# Altium integrated library Maxim Logic Switch.IntLib: 311 symbols (part 4 of 6)
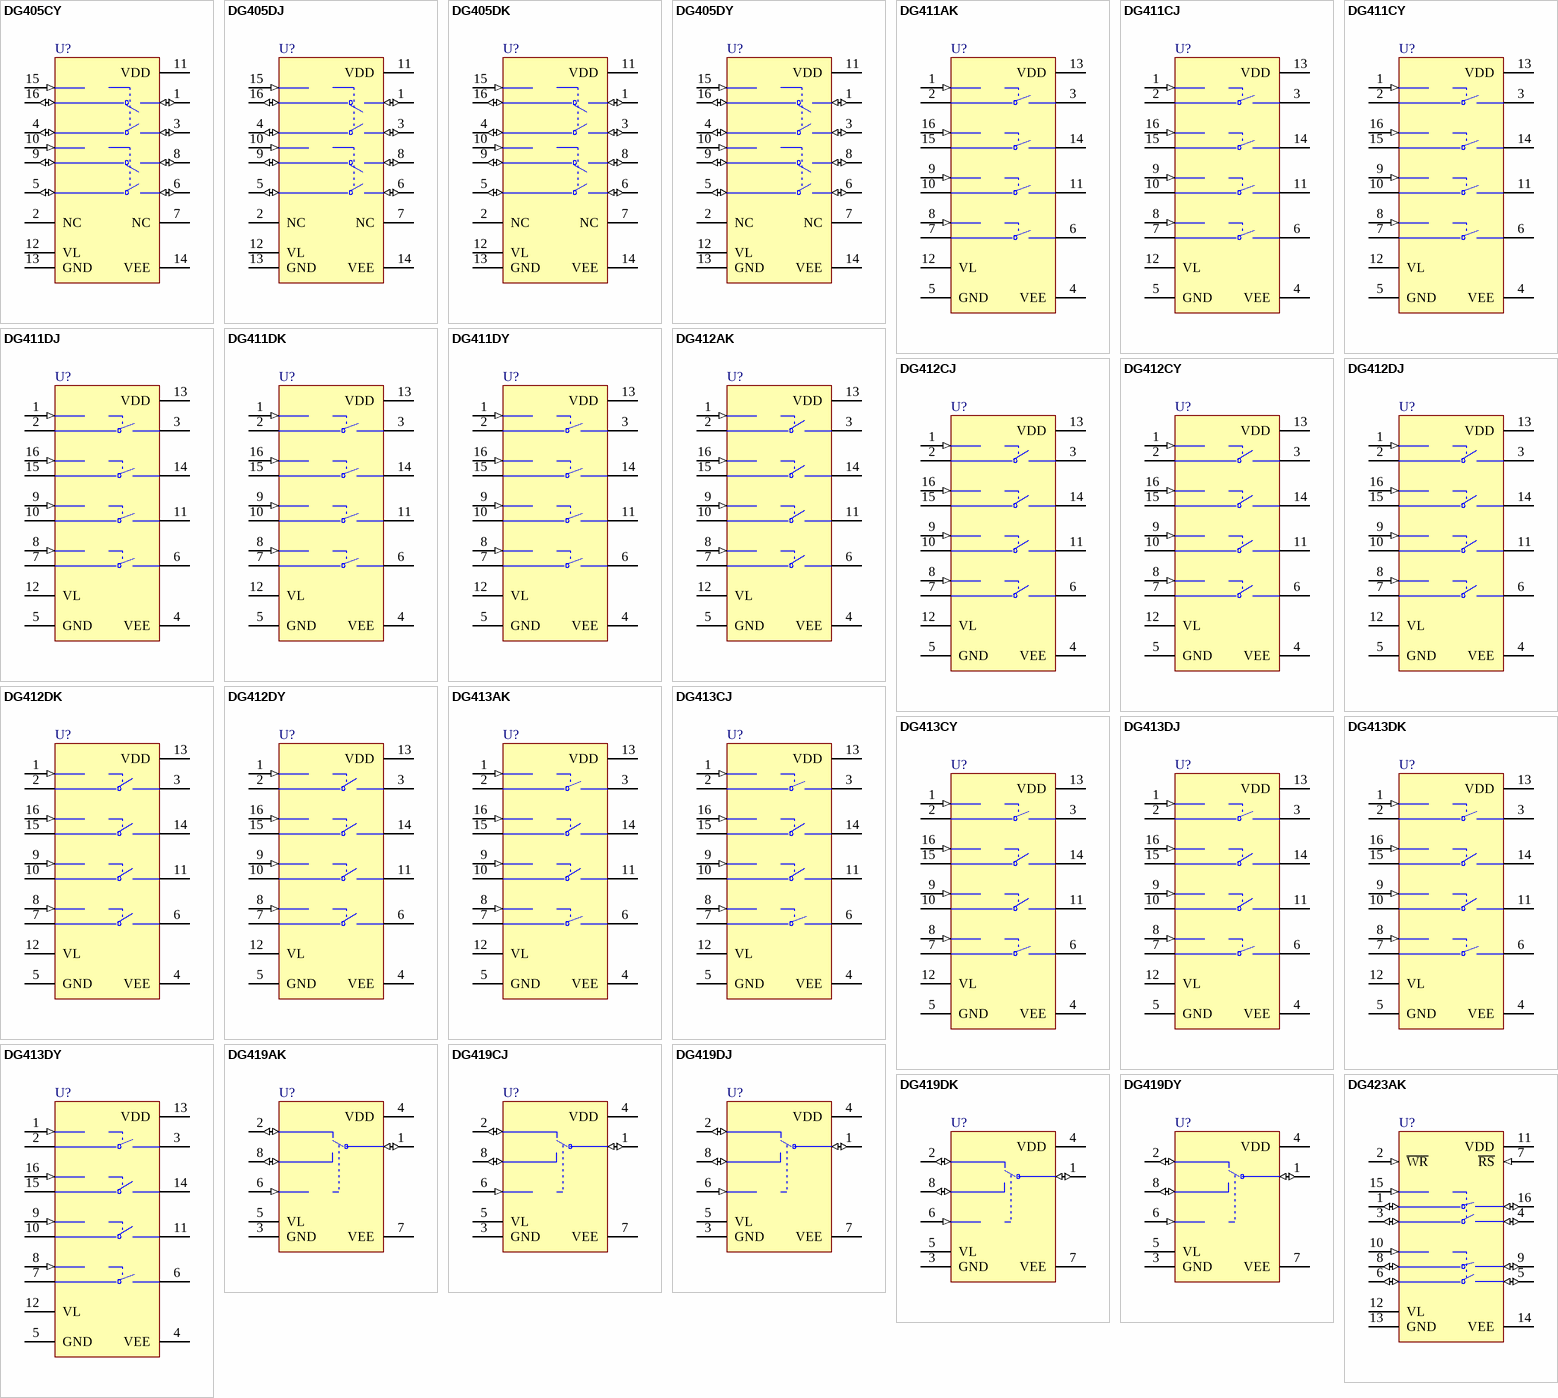
[diagram p13: symbols DG405CY to DG423AK]

## DG405DJ
designator U?
Improved, Dual High Speed Analog Switch; Published: 16-Jan-2001; LatestRevisionDate: 29-May-2009; LatestRevisionNote: Component Body Added.; PackageVersion: 1997; PackageReference: PE16A; Publisher: Altium Limited; PackageDescription: DIP, 16-Pin, Row Spacing 7.62 mm, Pitch 2.54 mm; Code_JEDEC: MS-001-BB; ComponentLink1Description: Manufacturer Link; ComponentLink1URL: http://www.maxim-ic.com/; ComponentLink2Description: Datasheet; ComponentLink2URL: http://pdfserv.maxim-ic.com/en/ds/DG401-DG405.pdf
footprint PE16A (DIP, 16-Leads, Row Spacing 7.62mm, Pitch 2.54mm, Body 19.18x6.99mm)
3D model PE16 (DIP, 16-Pin, Row Spacing 7.62 mm, Pitch 2.54 mm)
pins: 1 D1 (io), 2 NC, 3 D3 (io), 4 S3 (io), 5 S4 (io), 6 D4 (io), 7 NC, 8 D2 (io), 9 S2 (io), 10 IN2 (in), 11 VDD (power), 12 VL (power), 13 GND (power), 14 VEE (power), 15 IN1 (in), 16 S1 (io)

## DG405DK
designator U?
Improved, Dual High Speed Analog Switch; Published: 16-Jan-2001; LatestRevisionDate: 29-May-2009; LatestRevisionNote: Component Body Added.; PackageVersion: 1996; PackageReference: JE16; Publisher: Altium Limited; PackageDescription: DIP, 16-Pin, Row Spacing 7.62 mm, Pitch 2.54 mm; ComponentLink1Description: Manufacturer Link; ComponentLink1URL: http://www.maxim-ic.com/; ComponentLink2Description: Datasheet; ComponentLink2URL: http://pdfserv.maxim-ic.com/en/ds/DG401-DG405.pdf
footprint JE16 (DIP, 16-Leads, Row Spacing 7.62mm, Pitch 2.54mm, Body 20.37x6.73mm)
3D model JE16 (DIP, 16-Pin, Row Spacing 7.62 mm, Pitch 2.54 mm)
pins: 1 D1 (io), 2 NC, 3 D3 (io), 4 S3 (io), 5 S4 (io), 6 D4 (io), 7 NC, 8 D2 (io), 9 S2 (io), 10 IN2 (in), 11 VDD (power), 12 VL (power), 13 GND (power), 14 VEE (power), 15 IN1 (in), 16 S1 (io)

## DG405DY
designator U?
Improved, Dual High Speed Analog Switch; Published: 16-Jan-2001; LatestRevisionDate: 13-Apr-2006; LatestRevisionNote: IPC-7351 Footprint Added.; PackageReference: NSO16; Publisher: Altium Limited; PackageDescription: 16-Pin Small Outline Integrated Circuit 1.27 mm Pitch; Code_JEDEC: MS-012-AC; Code_IPC: SOIC127P600-16; ComponentLink1Description: Manufacturer Link; ComponentLink1URL: http://www.maxim-ic.com/; ComponentLink2Description: Datasheet; ComponentLink2URL: http://pdfserv.maxim-ic.com/en/ds/DG401-DG405.pdf
footprint NSO16_N (SOIC, 16-Leads, Body 9.9x3.9mm, Pitch 1.27mm, IPC Medium Density)
footprint NSO16_L (SOIC, 16-Leads, Body 9.9x3.9mm, Pitch 1.27mm, IPC High Density)
footprint NSO16_M (SOIC, 16-Leads, Body 9.9x3.9mm, Pitch 1.27mm, IPC Low Density)
3D model NSO16 (16-Pin Small Outline Integrated Circuit 1.27 mm Pitch)
pins: 1 D1 (io), 2 NC, 3 D3 (io), 4 S3 (io), 5 S4 (io), 6 D4 (io), 7 NC, 8 D2 (io), 9 S2 (io), 10 IN2 (in), 11 VDD (power), 12 VL (power), 13 GND (power), 14 VEE (power), 15 IN1 (in), 16 S1 (io)

## DG411AK
designator U?
Improved, Quad, SPST Analog Switches; Published: 16-Jan-2001; LatestRevisionDate: 29-May-2009; LatestRevisionNote: Component Body Added.; DatasheetVersion: Aug-1995; PackageVersion: 1996; PackageReference: JE16; Publisher: Altium Limited; PackageDescription: DIP, 16-Pin, Row Spacing 7.62 mm, Pitch 2.54 mm; ComponentLink1Description: Manufacturer Link; ComponentLink1URL: http://www.maxim-ic.com/; ComponentLink2Description: Datasheet; ComponentLink2URL: http://pdfserv.maxim-ic.com/en/ds/DG411-DG413.pdf
footprint JE16 (DIP, 16-Leads, Row Spacing 7.62mm, Pitch 2.54mm, Body 20.37x6.73mm)
3D model JE16 (DIP, 16-Pin, Row Spacing 7.62 mm, Pitch 2.54 mm)
pins: 1 IN1 (in), 2 D1, 3 S1, 4 VEE (power), 5 GND (power), 6 S4, 7 D4, 8 IN 4 (in), 9 IN3 (in), 10 D3, 11 S3, 12 VL (power), 13 VDD (power), 14 S2, 15 D2, 16 IN2 (in)

## DG411CJ
designator U?
Improved, Quad SPST Analog Switch; Published: 16-Jan-2001; LatestRevisionDate: 29-May-2009; LatestRevisionNote: Component Body Added.; DatasheetVersion: Aug-1995; PackageVersion: 1997; PackageReference: PE16A; Publisher: Altium Limited; PackageDescription: DIP, 16-Pin, Row Spacing 7.62 mm, Pitch 2.54 mm; Code_JEDEC: MS-001-BB; ComponentLink1Description: Manufacturer Link; ComponentLink1URL: http://www.maxim-ic.com/; ComponentLink2Description: Datasheet; ComponentLink2URL: http://pdfserv.maxim-ic.com/en/ds/DG411-DG413.pdf
footprint PE16A (DIP, 16-Leads, Row Spacing 7.62mm, Pitch 2.54mm, Body 19.18x6.99mm)
3D model PE16 (DIP, 16-Pin, Row Spacing 7.62 mm, Pitch 2.54 mm)
pins: 1 IN1 (in), 2 D1, 3 S1, 4 VEE (power), 5 GND (power), 6 S4, 7 D4, 8 IN 4 (in), 9 IN3 (in), 10 D3, 11 S3, 12 VL (power), 13 VDD (power), 14 S2, 15 D2, 16 IN2 (in)

## DG411CY
designator U?
Improved, Quad SPST Analog Switch; Published: 16-Jan-2001; LatestRevisionDate: 13-Apr-2006; LatestRevisionNote: IPC-7351 Footprint Added.; DatasheetVersion: Aug-1995; PackageReference: NSO16; Publisher: Altium Limited; PackageDescription: 16-Pin Small Outline Integrated Circuit 1.27 mm Pitch; Code_JEDEC: MS-012-AC; Code_IPC: SOIC127P600-16; ComponentLink1Description: Manufacturer Link; ComponentLink1URL: http://www.maxim-ic.com/; ComponentLink2Description: Datasheet; ComponentLink2URL: http://pdfserv.maxim-ic.com/en/ds/DG411-DG413.pdf
footprint NSO16_N (SOIC, 16-Leads, Body 9.9x3.9mm, Pitch 1.27mm, IPC Medium Density)
footprint NSO16_L (SOIC, 16-Leads, Body 9.9x3.9mm, Pitch 1.27mm, IPC High Density)
footprint NSO16_M (SOIC, 16-Leads, Body 9.9x3.9mm, Pitch 1.27mm, IPC Low Density)
3D model NSO16 (16-Pin Small Outline Integrated Circuit 1.27 mm Pitch)
pins: 1 IN1 (in), 2 D1, 3 S1, 4 VEE (power), 5 GND (power), 6 S4, 7 D4, 8 IN 4 (in), 9 IN3 (in), 10 D3, 11 S3, 12 VL (power), 13 VDD (power), 14 S2, 15 D2, 16 IN2 (in)

## DG411DJ
designator U?
Improved, Quad, SPST Analog Switches; Published: 16-Jan-2001; LatestRevisionDate: 29-May-2009; LatestRevisionNote: Component Body Added.; DatasheetVersion: Aug-1995; PackageVersion: Aug-1995; PackageReference: PE16B; Publisher: Altium Limited; PackageDescription: DIP, 16-Pin, Row Spacing 7.62 mm, Pitch 2.54 mm; Code_JEDEC: MS-001-BB; ComponentLink1Description: Manufacturer Link; ComponentLink1URL: http://www.maxim-ic.com/; ComponentLink2Description: Datasheet; ComponentLink2URL: http://pdfserv.maxim-ic.com/en/ds/DG411-DG413.pdf
footprint PE16B (DIP, 16-Leads, Row Spacing 7.62mm, Pitch 2.54mm, Body 19.18x6.61mm)
3D model PE16 (DIP, 16-Pin, Row Spacing 7.62 mm, Pitch 2.54 mm)
pins: 1 IN1 (in), 2 D1, 3 S1, 4 VEE (power), 5 GND (power), 6 S4, 7 D4, 8 IN 4 (in), 9 IN3 (in), 10 D3, 11 S3, 12 VL (power), 13 VDD (power), 14 S2, 15 D2, 16 IN2 (in)

## DG411DK
designator U?
Improved, Quad, SPST Analog Switches; Published: 16-Jan-2001; LatestRevisionDate: 29-May-2009; LatestRevisionNote: Component Body Added.; DatasheetVersion: Aug-1995; PackageVersion: 1996; PackageReference: JE16; Publisher: Altium Limited; PackageDescription: DIP, 16-Pin, Row Spacing 7.62 mm, Pitch 2.54 mm; ComponentLink1Description: Manufacturer Link; ComponentLink1URL: http://www.maxim-ic.com/; ComponentLink2Description: Datasheet; ComponentLink2URL: http://pdfserv.maxim-ic.com/en/ds/DG411-DG413.pdf
footprint JE16 (DIP, 16-Leads, Row Spacing 7.62mm, Pitch 2.54mm, Body 20.37x6.73mm)
3D model JE16 (DIP, 16-Pin, Row Spacing 7.62 mm, Pitch 2.54 mm)
pins: 1 IN1 (in), 2 D1, 3 S1, 4 VEE (power), 5 GND (power), 6 S4, 7 D4, 8 IN 4 (in), 9 IN3 (in), 10 D3, 11 S3, 12 VL (power), 13 VDD (power), 14 S2, 15 D2, 16 IN2 (in)

## DG411DY
designator U?
Improved, Quad, SPST Analog Switches; Published: 16-Jan-2001; LatestRevisionDate: 13-Apr-2006; LatestRevisionNote: IPC-7351 Footprint Added.; DatasheetVersion: Aug-1995; PackageReference: NSO16; Publisher: Altium Limited; PackageDescription: 16-Pin Small Outline Integrated Circuit 1.27 mm Pitch; Code_JEDEC: MS-012-AC; Code_IPC: SOIC127P600-16; ComponentLink1Description: Manufacturer Link; ComponentLink1URL: http://www.maxim-ic.com/; ComponentLink2Description: Datasheet; ComponentLink2URL: http://pdfserv.maxim-ic.com/en/ds/DG411-DG413.pdf
footprint NSO16_N (SOIC, 16-Leads, Body 9.9x3.9mm, Pitch 1.27mm, IPC Medium Density)
footprint NSO16_L (SOIC, 16-Leads, Body 9.9x3.9mm, Pitch 1.27mm, IPC High Density)
footprint NSO16_M (SOIC, 16-Leads, Body 9.9x3.9mm, Pitch 1.27mm, IPC Low Density)
3D model NSO16 (16-Pin Small Outline Integrated Circuit 1.27 mm Pitch)
pins: 1 IN1 (in), 2 D1, 3 S1, 4 VEE (power), 5 GND (power), 6 S4, 7 D4, 8 IN 4 (in), 9 IN3 (in), 10 D3, 11 S3, 12 VL (power), 13 VDD (power), 14 S2, 15 D2, 16 IN2 (in)

## DG412AK
designator U?
Improved, Quad, SPST Analog Switches; Published: 16-Jan-2001; LatestRevisionDate: 29-May-2009; LatestRevisionNote: Component Body Added.; DatasheetVersion: Aug-1995; PackageVersion: 1996; PackageReference: JE16; Publisher: Altium Limited; PackageDescription: DIP, 16-Pin, Row Spacing 7.62 mm, Pitch 2.54 mm; ComponentLink1Description: Manufacturer Link; ComponentLink1URL: http://www.maxim-ic.com/; ComponentLink2Description: Datasheet; ComponentLink2URL: http://pdfserv.maxim-ic.com/en/ds/DG411-DG413.pdf
footprint JE16 (DIP, 16-Leads, Row Spacing 7.62mm, Pitch 2.54mm, Body 20.37x6.73mm)
3D model JE16 (DIP, 16-Pin, Row Spacing 7.62 mm, Pitch 2.54 mm)
pins: 1 IN1 (in), 2 D1, 3 S1, 4 VEE (power), 5 GND (power), 6 S4, 7 D4, 8 IN 4 (in), 9 IN3 (in), 10 D3, 11 S3, 12 VL (power), 13 VDD (power), 14 S2, 15 D2, 16 IN2 (in)

## DG412CJ
designator U?
Improved, Quad, SPST Analog Switches; Published: 16-Jan-2001; LatestRevisionDate: 29-May-2009; LatestRevisionNote: Component Body Added.; DatasheetVersion: Aug-1995; PackageVersion: Aug-1995; PackageReference: PE16B; Publisher: Altium Limited; PackageDescription: DIP, 16-Pin, Row Spacing 7.62 mm, Pitch 2.54 mm; Code_JEDEC: MS-001-BB; ComponentLink1Description: Manufacturer Link; ComponentLink1URL: http://www.maxim-ic.com/; ComponentLink2Description: Datasheet; ComponentLink2URL: http://pdfserv.maxim-ic.com/en/ds/DG411-DG413.pdf
footprint PE16B (DIP, 16-Leads, Row Spacing 7.62mm, Pitch 2.54mm, Body 19.18x6.61mm)
3D model PE16 (DIP, 16-Pin, Row Spacing 7.62 mm, Pitch 2.54 mm)
pins: 1 IN1 (in), 2 D1, 3 S1, 4 VEE (power), 5 GND (power), 6 S4, 7 D4, 8 IN 4 (in), 9 IN3 (in), 10 D3, 11 S3, 12 VL (power), 13 VDD (power), 14 S2, 15 D2, 16 IN2 (in)

## DG412CY
designator U?
Improved, Quad, SPST Analog Switches; Published: 16-Jan-2001; LatestRevisionDate: 13-Apr-2006; LatestRevisionNote: IPC-7351 Footprint Added.; DatasheetVersion: Aug-1995; PackageReference: NSO16; Publisher: Altium Limited; PackageDescription: 16-Pin Small Outline Integrated Circuit 1.27 mm Pitch; Code_JEDEC: MS-012-AC; Code_IPC: SOIC127P600-16; ComponentLink1Description: Manufacturer Link; ComponentLink1URL: http://www.maxim-ic.com/; ComponentLink2Description: Datasheet; ComponentLink2URL: http://pdfserv.maxim-ic.com/en/ds/DG411-DG413.pdf
footprint NSO16_N (SOIC, 16-Leads, Body 9.9x3.9mm, Pitch 1.27mm, IPC Medium Density)
footprint NSO16_L (SOIC, 16-Leads, Body 9.9x3.9mm, Pitch 1.27mm, IPC High Density)
footprint NSO16_M (SOIC, 16-Leads, Body 9.9x3.9mm, Pitch 1.27mm, IPC Low Density)
3D model NSO16 (16-Pin Small Outline Integrated Circuit 1.27 mm Pitch)
pins: 1 IN1 (in), 2 D1, 3 S1, 4 VEE (power), 5 GND (power), 6 S4, 7 D4, 8 IN 4 (in), 9 IN3 (in), 10 D3, 11 S3, 12 VL (power), 13 VDD (power), 14 S2, 15 D2, 16 IN2 (in)

## DG412DJ
designator U?
Improved, Quad, SPST Analog Switches; Published: 16-Jan-2001; LatestRevisionDate: 29-May-2009; LatestRevisionNote: Component Body Added.; DatasheetVersion: Aug-1995; PackageVersion: Aug-1995; PackageReference: PE16B; Publisher: Altium Limited; PackageDescription: DIP, 16-Pin, Row Spacing 7.62 mm, Pitch 2.54 mm; Code_JEDEC: MS-001-BB; ComponentLink1Description: Manufacturer Link; ComponentLink1URL: http://www.maxim-ic.com/; ComponentLink2Description: Datasheet; ComponentLink2URL: http://pdfserv.maxim-ic.com/en/ds/DG411-DG413.pdf
footprint PE16B (DIP, 16-Leads, Row Spacing 7.62mm, Pitch 2.54mm, Body 19.18x6.61mm)
3D model PE16 (DIP, 16-Pin, Row Spacing 7.62 mm, Pitch 2.54 mm)
pins: 1 IN1 (in), 2 D1, 3 S1, 4 VEE (power), 5 GND (power), 6 S4, 7 D4, 8 IN 4 (in), 9 IN3 (in), 10 D3, 11 S3, 12 VL (power), 13 VDD (power), 14 S2, 15 D2, 16 IN2 (in)

## DG412DK
designator U?
Improved, Quad, SPST Analog Switches; Published: 16-Jan-2001; LatestRevisionDate: 29-May-2009; LatestRevisionNote: Component Body Added.; DatasheetVersion: Aug-1995; PackageVersion: 1996; PackageReference: JE16; Publisher: Altium Limited; PackageDescription: DIP, 16-Pin, Row Spacing 7.62 mm, Pitch 2.54 mm; ComponentLink1Description: Manufacturer Link; ComponentLink1URL: http://www.maxim-ic.com/; ComponentLink2Description: Datasheet; ComponentLink2URL: http://pdfserv.maxim-ic.com/en/ds/DG411-DG413.pdf
footprint JE16 (DIP, 16-Leads, Row Spacing 7.62mm, Pitch 2.54mm, Body 20.37x6.73mm)
3D model JE16 (DIP, 16-Pin, Row Spacing 7.62 mm, Pitch 2.54 mm)
pins: 1 IN1 (in), 2 D1, 3 S1, 4 VEE (power), 5 GND (power), 6 S4, 7 D4, 8 IN 4 (in), 9 IN3 (in), 10 D3, 11 S3, 12 VL (power), 13 VDD (power), 14 S2, 15 D2, 16 IN2 (in)

## DG412DY
designator U?
Improved, Quad, SPST Analog Switches; Published: 16-Jan-2001; LatestRevisionDate: 13-Apr-2006; LatestRevisionNote: IPC-7351 Footprint Added.; DatasheetVersion: Aug-1995; PackageReference: NSO16; Publisher: Altium Limited; PackageDescription: 16-Pin Small Outline Integrated Circuit 1.27 mm Pitch; Code_JEDEC: MS-012-AC; Code_IPC: SOIC127P600-16; ComponentLink1Description: Manufacturer Link; ComponentLink1URL: http://www.maxim-ic.com/; ComponentLink2Description: Datasheet; ComponentLink2URL: http://pdfserv.maxim-ic.com/en/ds/DG411-DG413.pdf
footprint NSO16_N (SOIC, 16-Leads, Body 9.9x3.9mm, Pitch 1.27mm, IPC Medium Density)
footprint NSO16_L (SOIC, 16-Leads, Body 9.9x3.9mm, Pitch 1.27mm, IPC High Density)
footprint NSO16_M (SOIC, 16-Leads, Body 9.9x3.9mm, Pitch 1.27mm, IPC Low Density)
3D model NSO16 (16-Pin Small Outline Integrated Circuit 1.27 mm Pitch)
pins: 1 IN1 (in), 2 D1, 3 S1, 4 VEE (power), 5 GND (power), 6 S4, 7 D4, 8 IN 4 (in), 9 IN3 (in), 10 D3, 11 S3, 12 VL (power), 13 VDD (power), 14 S2, 15 D2, 16 IN2 (in)

## DG413AK
designator U?
Improved, Quad, SPST Analog Switches; Published: 16-Jan-2001; LatestRevisionDate: 29-May-2009; LatestRevisionNote: Component Body Added.; DatasheetVersion: Aug-1995; PackageVersion: 1996; PackageReference: JE16; Publisher: Altium Limited; PackageDescription: DIP, 16-Pin, Row Spacing 7.62 mm, Pitch 2.54 mm; ComponentLink1Description: Manufacturer Link; ComponentLink1URL: http://www.maxim-ic.com/; ComponentLink2Description: Datasheet; ComponentLink2URL: http://pdfserv.maxim-ic.com/en/ds/DG411-DG413.pdf
footprint JE16 (DIP, 16-Leads, Row Spacing 7.62mm, Pitch 2.54mm, Body 20.37x6.73mm)
3D model JE16 (DIP, 16-Pin, Row Spacing 7.62 mm, Pitch 2.54 mm)
pins: 1 IN1 (in), 2 D1, 3 S1, 4 VEE (power), 5 GND (power), 6 S4, 7 D4, 8 IN 4 (in), 9 IN3 (in), 10 D3, 11 S3, 12 VL (power), 13 VDD (power), 14 S2, 15 D2, 16 IN2 (in)

## DG413CJ
designator U?
Improved, Quad, SPST Analog Switches; Published: 16-Jan-2001; LatestRevisionDate: 29-May-2009; LatestRevisionNote: Component Body Added.; DatasheetVersion: Aug-1995; PackageVersion: Aug-1995; PackageReference: PE16B; Publisher: Altium Limited; PackageDescription: DIP, 16-Pin, Row Spacing 7.62 mm, Pitch 2.54 mm; Code_JEDEC: MS-001-BB; ComponentLink1Description: Manufacturer Link; ComponentLink1URL: http://www.maxim-ic.com/; ComponentLink2Description: Datasheet; ComponentLink2URL: http://pdfserv.maxim-ic.com/en/ds/DG411-DG413.pdf
footprint PE16B (DIP, 16-Leads, Row Spacing 7.62mm, Pitch 2.54mm, Body 19.18x6.61mm)
3D model PE16 (DIP, 16-Pin, Row Spacing 7.62 mm, Pitch 2.54 mm)
pins: 1 IN1 (in), 2 D1, 3 S1, 4 VEE (power), 5 GND (power), 6 S4, 7 D4, 8 IN 4 (in), 9 IN3 (in), 10 D3, 11 S3, 12 VL (power), 13 VDD (power), 14 S2, 15 D2, 16 IN2 (in)

## DG413CY
designator U?
Improved, Quad, SPST Analog Switches; Published: 16-Jan-2001; LatestRevisionDate: 13-Apr-2006; LatestRevisionNote: IPC-7351 Footprint Added.; DatasheetVersion: Aug-1995; PackageReference: NSO16; Publisher: Altium Limited; PackageDescription: 16-Pin Small Outline Integrated Circuit 1.27 mm Pitch; Code_JEDEC: MS-012-AC; Code_IPC: SOIC127P600-16; ComponentLink1Description: Manufacturer Link; ComponentLink1URL: http://www.maxim-ic.com/; ComponentLink2Description: Datasheet; ComponentLink2URL: http://pdfserv.maxim-ic.com/en/ds/DG411-DG413.pdf
footprint NSO16_N (SOIC, 16-Leads, Body 9.9x3.9mm, Pitch 1.27mm, IPC Medium Density)
footprint NSO16_L (SOIC, 16-Leads, Body 9.9x3.9mm, Pitch 1.27mm, IPC High Density)
footprint NSO16_M (SOIC, 16-Leads, Body 9.9x3.9mm, Pitch 1.27mm, IPC Low Density)
3D model NSO16 (16-Pin Small Outline Integrated Circuit 1.27 mm Pitch)
pins: 1 IN1 (in), 2 D1, 3 S1, 4 VEE (power), 5 GND (power), 6 S4, 7 D4, 8 IN 4 (in), 9 IN3 (in), 10 D3, 11 S3, 12 VL (power), 13 VDD (power), 14 S2, 15 D2, 16 IN2 (in)

## DG413DJ
designator U?
Improved, Quad, SPST Analog Switches; Published: 16-Jan-2001; LatestRevisionDate: 29-May-2009; LatestRevisionNote: Component Body Added.; DatasheetVersion: Aug-1995; PackageVersion: Aug-1995; PackageReference: PE16B; Publisher: Altium Limited; PackageDescription: DIP, 16-Pin, Row Spacing 7.62 mm, Pitch 2.54 mm; Code_JEDEC: MS-001-BB; ComponentLink1Description: Manufacturer Link; ComponentLink1URL: http://www.maxim-ic.com/; ComponentLink2Description: Datasheet; ComponentLink2URL: http://pdfserv.maxim-ic.com/en/ds/DG411-DG413.pdf
footprint PE16B (DIP, 16-Leads, Row Spacing 7.62mm, Pitch 2.54mm, Body 19.18x6.61mm)
3D model PE16 (DIP, 16-Pin, Row Spacing 7.62 mm, Pitch 2.54 mm)
pins: 1 IN1 (in), 2 D1, 3 S1, 4 VEE (power), 5 GND (power), 6 S4, 7 D4, 8 IN 4 (in), 9 IN3 (in), 10 D3, 11 S3, 12 VL (power), 13 VDD (power), 14 S2, 15 D2, 16 IN2 (in)

## DG413DK
designator U?
Improved, Quad, SPST Analog Switches; Published: 16-Jan-2001; LatestRevisionDate: 29-May-2009; LatestRevisionNote: Component Body Added.; DatasheetVersion: Aug-1995; PackageVersion: 1996; PackageReference: JE16; Publisher: Altium Limited; PackageDescription: DIP, 16-Pin, Row Spacing 7.62 mm, Pitch 2.54 mm; ComponentLink1Description: Manufacturer Link; ComponentLink1URL: http://www.maxim-ic.com/; ComponentLink2Description: Datasheet; ComponentLink2URL: http://pdfserv.maxim-ic.com/en/ds/DG411-DG413.pdf
footprint JE16 (DIP, 16-Leads, Row Spacing 7.62mm, Pitch 2.54mm, Body 20.37x6.73mm)
3D model JE16 (DIP, 16-Pin, Row Spacing 7.62 mm, Pitch 2.54 mm)
pins: 1 IN1 (in), 2 D1, 3 S1, 4 VEE (power), 5 GND (power), 6 S4, 7 D4, 8 IN 4 (in), 9 IN3 (in), 10 D3, 11 S3, 12 VL (power), 13 VDD (power), 14 S2, 15 D2, 16 IN2 (in)

## DG413DY
designator U?
Improved, Quad, SPST Analog Switches; Published: 16-Jan-2001; LatestRevisionDate: 13-Apr-2006; LatestRevisionNote: IPC-7351 Footprint Added.; DatasheetVersion: Aug-1995; PackageReference: NSO16; Publisher: Altium Limited; PackageDescription: 16-Pin Small Outline Integrated Circuit 1.27 mm Pitch; Code_JEDEC: MS-012-AC; Code_IPC: SOIC127P600-16; ComponentLink1Description: Manufacturer Link; ComponentLink1URL: http://www.maxim-ic.com/; ComponentLink2Description: Datasheet; ComponentLink2URL: http://pdfserv.maxim-ic.com/en/ds/DG411-DG413.pdf
footprint NSO16_N (SOIC, 16-Leads, Body 9.9x3.9mm, Pitch 1.27mm, IPC Medium Density)
footprint NSO16_L (SOIC, 16-Leads, Body 9.9x3.9mm, Pitch 1.27mm, IPC High Density)
footprint NSO16_M (SOIC, 16-Leads, Body 9.9x3.9mm, Pitch 1.27mm, IPC Low Density)
3D model NSO16 (16-Pin Small Outline Integrated Circuit 1.27 mm Pitch)
pins: 1 IN1 (in), 2 D1, 3 S1, 4 VEE (power), 5 GND (power), 6 S4, 7 D4, 8 IN 4 (in), 9 IN3 (in), 10 D3, 11 S3, 12 VL (power), 13 VDD (power), 14 S2, 15 D2, 16 IN2 (in)

## DG419AK
designator U?
Improved, SPDT Analog Switch; Published: 16-Jan-2001; LatestRevisionDate: 29-May-2009; LatestRevisionNote: Component Body Added.; DatasheetVersion: Dec-1996; PackageVersion: 1996; PackageReference: JA8; Publisher: Altium Limited; PackageDescription: DIP, 8-Pin, Row Spacing 7.62 mm, Pitch 2.54 mm; ComponentLink1Description: Manufacturer Link; ComponentLink1URL: http://www.maxim-ic.com/; ComponentLink2Description: Datasheet; ComponentLink2URL: http://pdfserv.maxim-ic.com/en/ds/DG417-DG419.pdf
footprint JA8 (DIP, 8-Leads, Row Spacing 7.62mm, Pitch 2.54mm, Body 9.91x6.73mm)
3D model PA8 (DIP, 8-Pin, Row Spacing 7.62 mm, Pitch 2.54 mm)
pins: 1 D (io), 2 S1 (io), 3 GND (power), 4 VDD (power), 5 VL (power), 6 IN (in), 7 VEE (power), 8 S2 (io)

## DG419CJ
designator U?
Improved, SPDT Analog Switch; Published: 16-Jan-2001; LatestRevisionDate: 29-May-2009; LatestRevisionNote: Component Body Added.; DatasheetVersion: Dec-1996; PackageVersion: RevB, 21-0043; PackageReference: PA8; Publisher: Altium Limited; PackageDescription: DIP, 8-Pin, Row Spacing 7.62 mm, Pitch 2.54 mm; Code_JEDEC: MS-001-AB; ComponentLink1Description: Manufacturer Link; ComponentLink1URL: http://www.maxim-ic.com/; ComponentLink2Description: Datasheet; ComponentLink2URL: http://pdfserv.maxim-ic.com/en/ds/DG417-DG419.pdf
footprint PA8 (DIP, 8-Leads, Row Spacing 7.62mm, Pitch 2.54mm, Body 9.38x7.24mm)
3D model PA8 (DIP, 8-Pin, Row Spacing 7.62 mm, Pitch 2.54 mm)
pins: 1 D (io), 2 S1 (io), 3 GND (power), 4 VDD (power), 5 VL (power), 6 IN (in), 7 VEE (power), 8 S2 (io)

## DG419DJ
designator U?
Improved, SPDT Analog Switch; Published: 16-Jan-2001; LatestRevisionDate: 29-May-2009; LatestRevisionNote: Component Body Added.; DatasheetVersion: Dec-1996; PackageVersion: RevB, 21-0043; PackageReference: PA8; Publisher: Altium Limited; PackageDescription: DIP, 8-Pin, Row Spacing 7.62 mm, Pitch 2.54 mm; Code_JEDEC: MS-001-AB; ComponentLink1Description: Manufacturer Link; ComponentLink1URL: http://www.maxim-ic.com/; ComponentLink2Description: Datasheet; ComponentLink2URL: http://pdfserv.maxim-ic.com/en/ds/DG417-DG419.pdf
footprint PA8 (DIP, 8-Leads, Row Spacing 7.62mm, Pitch 2.54mm, Body 9.38x7.24mm)
3D model PA8 (DIP, 8-Pin, Row Spacing 7.62 mm, Pitch 2.54 mm)
pins: 1 D (io), 2 S1 (io), 3 GND (power), 4 VDD (power), 5 VL (power), 6 IN (in), 7 VEE (power), 8 S2 (io)

## DG419DK
designator U?
Improved, SPDT Analog Switch; Published: 16-Jan-2001; LatestRevisionDate: 29-May-2009; LatestRevisionNote: Component Body Added.; DatasheetVersion: Dec-1996; PackageVersion: 1996; PackageReference: JA8; Publisher: Altium Limited; PackageDescription: DIP, 8-Pin, Row Spacing 7.62 mm, Pitch 2.54 mm; ComponentLink1Description: Manufacturer Link; ComponentLink1URL: http://www.maxim-ic.com/; ComponentLink2Description: Datasheet; ComponentLink2URL: http://pdfserv.maxim-ic.com/en/ds/DG417-DG419.pdf
footprint JA8 (DIP, 8-Leads, Row Spacing 7.62mm, Pitch 2.54mm, Body 9.91x6.73mm)
3D model PA8 (DIP, 8-Pin, Row Spacing 7.62 mm, Pitch 2.54 mm)
pins: 1 D (io), 2 S1 (io), 3 GND (power), 4 VDD (power), 5 VL (power), 6 IN (in), 7 VEE (power), 8 S2 (io)

## DG419DY
designator U?
Improved, SPDT Analog Switch; Published: 16-Jan-2001; LatestRevisionDate: 13-Apr-2006; LatestRevisionNote: IPC-7351 Footprint Added.; DatasheetVersion: Dec-1996; PackageReference: NSO8; Publisher: Altium Limited; PackageDescription: 8-Pin Small Outline Integrated Circuit 1.27 mm Pitch; Code_JEDEC: MS-012-AA; Code_IPC: SOIC127P600-8; ComponentLink1Description: Manufacturer Link; ComponentLink1URL: http://www.maxim-ic.com/; ComponentLink2Description: Datasheet; ComponentLink2URL: http://pdfserv.maxim-ic.com/en/ds/DG417-DG419.pdf
footprint NSO8_N (SOIC, 8-Leads, Body 4.9x3.9mm, Pitch 1.27mm, IPC Medium Density)
footprint NSO8_L (SOIC, 8-Leads, Body 4.9x3.9mm, Pitch 1.27mm, IPC High Density)
footprint NSO8_M (SOIC, 8-Leads, Body 4.9x3.9mm, Pitch 1.27mm, IPC Low Density)
3D model NSO8 (8-Pin Small Outline Integrated Circuit 1.27 mm Pitch)
pins: 1 D (io), 2 S1 (io), 3 GND (power), 4 VDD (power), 5 VL (power), 6 IN (in), 7 VEE (power), 8 S2 (io)

## DG423AK
designator U?
Improved Low-Power, CMOS Analog Switch with Latch; Published: 16-Jan-2001; LatestRevisionDate: 29-May-2009; LatestRevisionNote: Component Body Added.; DatasheetVersion: Mar-1994; PackageVersion: 1996; PackageReference: JE16; Publisher: Altium Limited; PackageDescription: DIP, 16-Pin, Row Spacing 7.62 mm, Pitch 2.54 mm; ComponentLink1Description: Manufacturer Link; ComponentLink1URL: http://www.maxim-ic.com/; ComponentLink2Description: Datasheet; ComponentLink2URL: http://pdfserv.maxim-ic.com/en/ds/DG421-DG425.pdf
footprint JE16 (DIP, 16-Leads, Row Spacing 7.62mm, Pitch 2.54mm, Body 20.37x6.73mm)
3D model JE16 (DIP, 16-Pin, Row Spacing 7.62 mm, Pitch 2.54 mm)
pins: 1 D1 (io), 2 ~{WR} (in), 3 D3 (io), 4 S3 (io), 5 S4 (io), 6 D4 (io), 7 ~{RS} (in), 8 D2 (io), 9 S2 (io), 10 IN2 (in), 11 VDD (power), 12 VL (power), 13 GND (power), 14 VEE (power), 15 IN1 (in), 16 S1 (io)

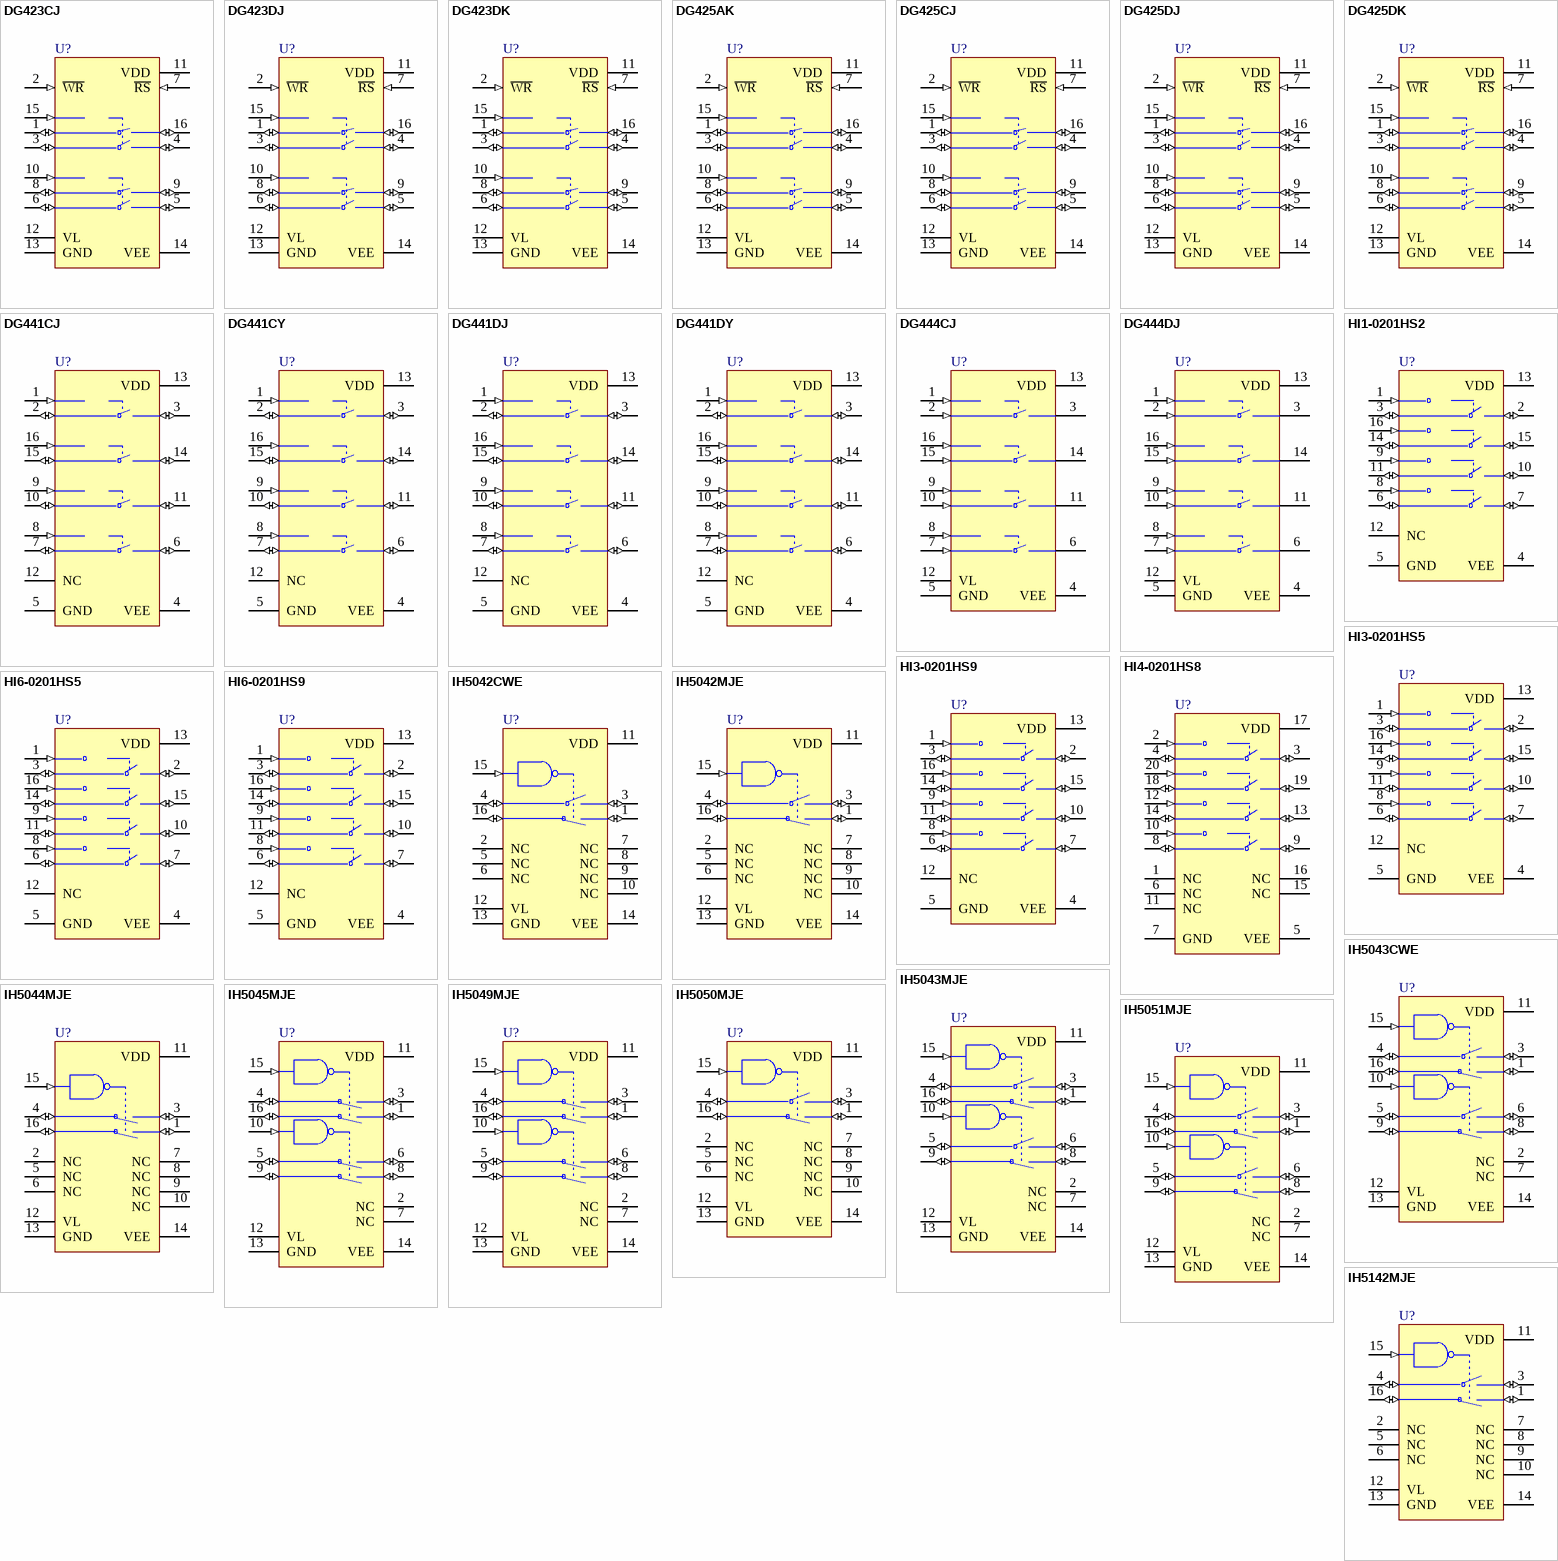
[diagram p6: symbols DG423CJ to IH5142MJE]

## DG423CJ
designator U?
Improved Low-Power, CMOS Analog Switch with Latch; Published: 16-Jan-2001; LatestRevisionDate: 29-May-2009; LatestRevisionNote: Component Body Added.; DatasheetVersion: Mar-1994; PackageVersion: 1997; PackageReference: PE16A; Publisher: Altium Limited; PackageDescription: DIP, 16-Pin, Row Spacing 7.62 mm, Pitch 2.54 mm; Code_JEDEC: MS-001-BB; ComponentLink1Description: Manufacturer Link; ComponentLink1URL: http://www.maxim-ic.com/; ComponentLink2Description: Datasheet; ComponentLink2URL: http://pdfserv.maxim-ic.com/en/ds/DG421-DG425.pdf
footprint PE16A (DIP, 16-Leads, Row Spacing 7.62mm, Pitch 2.54mm, Body 19.18x6.99mm)
3D model PE16 (DIP, 16-Pin, Row Spacing 7.62 mm, Pitch 2.54 mm)
pins: 1 D1 (io), 2 ~{WR} (in), 3 D3 (io), 4 S3 (io), 5 S4 (io), 6 D4 (io), 7 ~{RS} (in), 8 D2 (io), 9 S2 (io), 10 IN2 (in), 11 VDD (power), 12 VL (power), 13 GND (power), 14 VEE (power), 15 IN1 (in), 16 S1 (io)

## DG423DJ
designator U?
Improved Low-Power, CMOS Analog Switch with Latch; Published: 16-Jan-2001; LatestRevisionDate: 29-May-2009; LatestRevisionNote: Component Body Added.; DatasheetVersion: Mar-1994; PackageVersion: 1997; PackageReference: PE16A; Publisher: Altium Limited; PackageDescription: DIP, 16-Pin, Row Spacing 7.62 mm, Pitch 2.54 mm; Code_JEDEC: MS-001-BB; ComponentLink1Description: Manufacturer Link; ComponentLink1URL: http://www.maxim-ic.com/; ComponentLink2Description: Datasheet; ComponentLink2URL: http://pdfserv.maxim-ic.com/en/ds/DG421-DG425.pdf
footprint PE16A (DIP, 16-Leads, Row Spacing 7.62mm, Pitch 2.54mm, Body 19.18x6.99mm)
3D model PE16 (DIP, 16-Pin, Row Spacing 7.62 mm, Pitch 2.54 mm)
pins: 1 D1 (io), 2 ~{WR} (in), 3 D3 (io), 4 S3 (io), 5 S4 (io), 6 D4 (io), 7 ~{RS} (in), 8 D2 (io), 9 S2 (io), 10 IN2 (in), 11 VDD (power), 12 VL (power), 13 GND (power), 14 VEE (power), 15 IN1 (in), 16 S1 (io)

## DG423DK
designator U?
Improved Low-Power, CMOS Analog Switch with Latch; Published: 16-Jan-2001; LatestRevisionDate: 29-May-2009; LatestRevisionNote: Component Body Added.; DatasheetVersion: Mar-1994; PackageVersion: 1996; PackageReference: JE16; Publisher: Altium Limited; PackageDescription: DIP, 16-Pin, Row Spacing 7.62 mm, Pitch 2.54 mm; ComponentLink1Description: Manufacturer Link; ComponentLink1URL: http://www.maxim-ic.com/; ComponentLink2Description: Datasheet; ComponentLink2URL: http://pdfserv.maxim-ic.com/en/ds/DG421-DG425.pdf
footprint JE16 (DIP, 16-Leads, Row Spacing 7.62mm, Pitch 2.54mm, Body 20.37x6.73mm)
3D model JE16 (DIP, 16-Pin, Row Spacing 7.62 mm, Pitch 2.54 mm)
pins: 1 D1 (io), 2 ~{WR} (in), 3 D3 (io), 4 S3 (io), 5 S4 (io), 6 D4 (io), 7 ~{RS} (in), 8 D2 (io), 9 S2 (io), 10 IN2 (in), 11 VDD (power), 12 VL (power), 13 GND (power), 14 VEE (power), 15 IN1 (in), 16 S1 (io)

## DG425AK
designator U?
Improved Low-Power, CMOS Analog Switch with Latch; Published: 16-Jan-2001; LatestRevisionDate: 29-May-2009; LatestRevisionNote: Component Body Added.; DatasheetVersion: Mar-1994; PackageVersion: 1996; PackageReference: JE16; Publisher: Altium Limited; PackageDescription: DIP, 16-Pin, Row Spacing 7.62 mm, Pitch 2.54 mm; ComponentLink1Description: Manufacturer Link; ComponentLink1URL: http://www.maxim-ic.com/; ComponentLink2Description: Datasheet; ComponentLink2URL: http://pdfserv.maxim-ic.com/en/ds/DG421-DG425.pdf
footprint JE16 (DIP, 16-Leads, Row Spacing 7.62mm, Pitch 2.54mm, Body 20.37x6.73mm)
3D model JE16 (DIP, 16-Pin, Row Spacing 7.62 mm, Pitch 2.54 mm)
pins: 1 D1 (io), 2 ~{WR} (in), 3 D3 (io), 4 S3 (io), 5 S4 (io), 6 D4 (io), 7 ~{RS} (in), 8 D2 (io), 9 S2 (io), 10 IN2 (in), 11 VDD (power), 12 VL (power), 13 GND (power), 14 VEE (power), 15 IN1 (in), 16 S1 (io)

## DG425CJ
designator U?
Improved Low-Power, CMOS Analog Switch with Latch; Published: 16-Jan-2001; LatestRevisionDate: 29-May-2009; LatestRevisionNote: Component Body Added.; DatasheetVersion: Mar-1994; PackageVersion: 1997; PackageReference: PE16A; Publisher: Altium Limited; PackageDescription: DIP, 16-Pin, Row Spacing 7.62 mm, Pitch 2.54 mm; Code_JEDEC: MS-001-BB; ComponentLink1Description: Manufacturer Link; ComponentLink1URL: http://www.maxim-ic.com/; ComponentLink2Description: Datasheet; ComponentLink2URL: http://pdfserv.maxim-ic.com/en/ds/DG421-DG425.pdf
footprint PE16A (DIP, 16-Leads, Row Spacing 7.62mm, Pitch 2.54mm, Body 19.18x6.99mm)
3D model PE16 (DIP, 16-Pin, Row Spacing 7.62 mm, Pitch 2.54 mm)
pins: 1 D1 (io), 2 ~{WR} (in), 3 D3 (io), 4 S3 (io), 5 S4 (io), 6 D4 (io), 7 ~{RS} (in), 8 D2 (io), 9 S2 (io), 10 IN2 (in), 11 VDD (power), 12 VL (power), 13 GND (power), 14 VEE (power), 15 IN1 (in), 16 S1 (io)

## DG425DJ
designator U?
Improved Low-Power, CMOS Analog Switch with Latch; Published: 16-Jan-2001; LatestRevisionDate: 29-May-2009; LatestRevisionNote: Component Body Added.; DatasheetVersion: Mar-1994; PackageVersion: 1997; PackageReference: PE16A; Publisher: Altium Limited; PackageDescription: DIP, 16-Pin, Row Spacing 7.62 mm, Pitch 2.54 mm; Code_JEDEC: MS-001-BB; ComponentLink1Description: Manufacturer Link; ComponentLink1URL: http://www.maxim-ic.com/; ComponentLink2Description: Datasheet; ComponentLink2URL: http://pdfserv.maxim-ic.com/en/ds/DG421-DG425.pdf
footprint PE16A (DIP, 16-Leads, Row Spacing 7.62mm, Pitch 2.54mm, Body 19.18x6.99mm)
3D model PE16 (DIP, 16-Pin, Row Spacing 7.62 mm, Pitch 2.54 mm)
pins: 1 D1 (io), 2 ~{WR} (in), 3 D3 (io), 4 S3 (io), 5 S4 (io), 6 D4 (io), 7 ~{RS} (in), 8 D2 (io), 9 S2 (io), 10 IN2 (in), 11 VDD (power), 12 VL (power), 13 GND (power), 14 VEE (power), 15 IN1 (in), 16 S1 (io)

## DG425DK
designator U?
Improved Low-Power, CMOS Analog Switch with Latch; Published: 16-Jan-2001; LatestRevisionDate: 29-May-2009; LatestRevisionNote: Component Body Added.; DatasheetVersion: Mar-1994; PackageVersion: 1996; PackageReference: JE16; Publisher: Altium Limited; PackageDescription: DIP, 16-Pin, Row Spacing 7.62 mm, Pitch 2.54 mm; ComponentLink1Description: Manufacturer Link; ComponentLink1URL: http://www.maxim-ic.com/; ComponentLink2Description: Datasheet; ComponentLink2URL: http://pdfserv.maxim-ic.com/en/ds/DG421-DG425.pdf
footprint JE16 (DIP, 16-Leads, Row Spacing 7.62mm, Pitch 2.54mm, Body 20.37x6.73mm)
3D model JE16 (DIP, 16-Pin, Row Spacing 7.62 mm, Pitch 2.54 mm)
pins: 1 D1 (io), 2 ~{WR} (in), 3 D3 (io), 4 S3 (io), 5 S4 (io), 6 D4 (io), 7 ~{RS} (in), 8 D2 (io), 9 S2 (io), 10 IN2 (in), 11 VDD (power), 12 VL (power), 13 GND (power), 14 VEE (power), 15 IN1 (in), 16 S1 (io)

## DG441CJ
designator U?
Improved, Quad, SPST  Analog Switch; Published: 16-Jan-2001; LatestRevisionDate: 29-May-2009; LatestRevisionNote: Component Body Added.; DatasheetVersion: Jul-1996; PackageVersion: 1997; PackageReference: PE16A; Publisher: Altium Limited; PackageDescription: DIP, 16-Pin, Row Spacing 7.62 mm, Pitch 2.54 mm; Code_JEDEC: MS-001-BB; ComponentLink1Description: Manufacturer Link; ComponentLink1URL: http://www.maxim-ic.com/; ComponentLink2Description: Datasheet; ComponentLink2URL: http://pdfserv.maxim-ic.com/en/ds/DG441-DG442.pdf
footprint PE16A (DIP, 16-Leads, Row Spacing 7.62mm, Pitch 2.54mm, Body 19.18x6.99mm)
3D model PE16 (DIP, 16-Pin, Row Spacing 7.62 mm, Pitch 2.54 mm)
pins: 1 IN1 (in), 2 D1 (io), 3 S1 (io), 4 VEE (power), 5 GND (power), 6 S4 (io), 7 D4 (io), 8 IN4 (in), 9 IN3 (in), 10 D3 (io), 11 S3 (io), 12 NC, 13 VDD (power), 14 S2 (io), 15 D2 (io), 16 IN2 (in)

## DG441CY
designator U?
Improved, Quad, SPST  Analog Switch; Published: 16-Jan-2001; LatestRevisionDate: 13-Apr-2006; LatestRevisionNote: IPC-7351 Footprint Added.; DatasheetVersion: Jul-1996; PackageReference: NSO16; Publisher: Altium Limited; PackageDescription: 16-Pin Small Outline Integrated Circuit 1.27 mm Pitch; Code_JEDEC: MS-012-AC; Code_IPC: SOIC127P600-16; ComponentLink1Description: Manufacturer Link; ComponentLink1URL: http://www.maxim-ic.com/; ComponentLink2Description: Datasheet; ComponentLink2URL: http://pdfserv.maxim-ic.com/en/ds/DG441-DG442.pdf
footprint NSO16_N (SOIC, 16-Leads, Body 9.9x3.9mm, Pitch 1.27mm, IPC Medium Density)
footprint NSO16_L (SOIC, 16-Leads, Body 9.9x3.9mm, Pitch 1.27mm, IPC High Density)
footprint NSO16_M (SOIC, 16-Leads, Body 9.9x3.9mm, Pitch 1.27mm, IPC Low Density)
3D model NSO16 (16-Pin Small Outline Integrated Circuit 1.27 mm Pitch)
pins: 1 IN1 (in), 2 D1 (io), 3 S1 (io), 4 VEE (power), 5 GND (power), 6 S4 (io), 7 D4 (io), 8 IN4 (in), 9 IN3 (in), 10 D3 (io), 11 S3 (io), 12 NC, 13 VDD (power), 14 S2 (io), 15 D2 (io), 16 IN2 (in)

## DG441DJ
designator U?
Improved, Quad, SPST  Analog Switch; Published: 16-Jan-2001; LatestRevisionDate: 29-May-2009; LatestRevisionNote: Component Body Added.; DatasheetVersion: Jul-1996; PackageVersion: 1997; PackageReference: PE16A; Publisher: Altium Limited; PackageDescription: DIP, 16-Pin, Row Spacing 7.62 mm, Pitch 2.54 mm; Code_JEDEC: MS-001-BB; ComponentLink1Description: Manufacturer Link; ComponentLink1URL: http://www.maxim-ic.com/; ComponentLink2Description: Datasheet; ComponentLink2URL: http://pdfserv.maxim-ic.com/en/ds/DG441-DG442.pdf
footprint PE16A (DIP, 16-Leads, Row Spacing 7.62mm, Pitch 2.54mm, Body 19.18x6.99mm)
3D model PE16 (DIP, 16-Pin, Row Spacing 7.62 mm, Pitch 2.54 mm)
pins: 1 IN1 (in), 2 D1 (io), 3 S1 (io), 4 VEE (power), 5 GND (power), 6 S4 (io), 7 D4 (io), 8 IN4 (in), 9 IN3 (in), 10 D3 (io), 11 S3 (io), 12 NC, 13 VDD (power), 14 S2 (io), 15 D2 (io), 16 IN2 (in)

## DG441DY
designator U?
Improved, Quad, SPST  Analog Switch; Published: 16-Jan-2001; LatestRevisionDate: 13-Apr-2006; LatestRevisionNote: IPC-7351 Footprint Added.; DatasheetVersion: Jul-1996; PackageReference: NSO16; Publisher: Altium Limited; PackageDescription: 16-Pin Small Outline Integrated Circuit 1.27 mm Pitch; Code_JEDEC: MS-012-AC; Code_IPC: SOIC127P600-16; ComponentLink1Description: Manufacturer Link; ComponentLink1URL: http://www.maxim-ic.com/; ComponentLink2Description: Datasheet; ComponentLink2URL: http://pdfserv.maxim-ic.com/en/ds/DG441-DG442.pdf
footprint NSO16_N (SOIC, 16-Leads, Body 9.9x3.9mm, Pitch 1.27mm, IPC Medium Density)
footprint NSO16_L (SOIC, 16-Leads, Body 9.9x3.9mm, Pitch 1.27mm, IPC High Density)
footprint NSO16_M (SOIC, 16-Leads, Body 9.9x3.9mm, Pitch 1.27mm, IPC Low Density)
3D model NSO16 (16-Pin Small Outline Integrated Circuit 1.27 mm Pitch)
pins: 1 IN1 (in), 2 D1 (io), 3 S1 (io), 4 VEE (power), 5 GND (power), 6 S4 (io), 7 D4 (io), 8 IN4 (in), 9 IN3 (in), 10 D3 (io), 11 S3 (io), 12 NC, 13 VDD (power), 14 S2 (io), 15 D2 (io), 16 IN2 (in)

## DG444CJ
designator U?
Improved, Quad, SPST  Analog Switch; Published: 16-Jan-2001; LatestRevisionDate: 29-May-2009; LatestRevisionNote: Component Body Added.; DatasheetVersion: Apr-1994; PackageVersion: 1997; PackageReference: PE16A; Publisher: Altium Limited; PackageDescription: DIP, 16-Pin, Row Spacing 7.62 mm, Pitch 2.54 mm; Code_JEDEC: MS-001-BB; ComponentLink1Description: Manufacturer Link; ComponentLink1URL: http://www.maxim-ic.com/; ComponentLink2Description: Datasheet; ComponentLink2URL: http://pdfserv.maxim-ic.com/en/ds/DG444-DG445.pdf
footprint PE16A (DIP, 16-Leads, Row Spacing 7.62mm, Pitch 2.54mm, Body 19.18x6.99mm)
3D model PE16 (DIP, 16-Pin, Row Spacing 7.62 mm, Pitch 2.54 mm)
pins: 1 IN1 (in), 2 D1 (in), 3 S1 (hiz), 4 VEE (power), 5 GND (power), 6 S4 (hiz), 7 D4 (in), 8 IN4 (in), 9 IN3 (in), 10 D3 (in), 11 S3 (hiz), 12 VL (power), 13 VDD (power), 14 S2 (hiz), 15 D2 (in), 16 IN2 (in)

## DG444DJ
designator U?
Improved, Quad, SPST  Analog Switch; Published: 16-Jan-2001; LatestRevisionDate: 29-May-2009; LatestRevisionNote: Component Body Added.; DatasheetVersion: Apr-1994; PackageVersion: 1997; PackageReference: PE16A; Publisher: Altium Limited; PackageDescription: DIP, 16-Pin, Row Spacing 7.62 mm, Pitch 2.54 mm; Code_JEDEC: MS-001-BB; ComponentLink1Description: Manufacturer Link; ComponentLink1URL: http://www.maxim-ic.com/; ComponentLink2Description: Datasheet; ComponentLink2URL: http://pdfserv.maxim-ic.com/en/ds/DG444-DG445.pdf
footprint PE16A (DIP, 16-Leads, Row Spacing 7.62mm, Pitch 2.54mm, Body 19.18x6.99mm)
3D model PE16 (DIP, 16-Pin, Row Spacing 7.62 mm, Pitch 2.54 mm)
pins: 1 IN1 (in), 2 D1 (in), 3 S1 (hiz), 4 VEE (power), 5 GND (power), 6 S4 (hiz), 7 D4 (in), 8 IN4 (in), 9 IN3 (in), 10 D3 (in), 11 S3 (hiz), 12 VL (power), 13 VDD (power), 14 S2 (hiz), 15 D2 (in), 16 IN2 (in)

## HI1-0201HS2
designator U?
High-Speed, CMOS, Quad, SPST Analog Switch; Published: 16-Jan-2001; LatestRevisionDate: 29-May-2009; LatestRevisionNote: Component Body Added.; DatasheetVersion: Nov-1994; PackageVersion: 1996; PackageReference: JE16; Publisher: Altium Limited; PackageDescription: DIP, 16-Pin, Row Spacing 7.62 mm, Pitch 2.54 mm; ComponentLink1Description: Manufacturer Link; ComponentLink1URL: http://www.maxim-ic.com/; ComponentLink2Description: Datasheet; ComponentLink2URL: http://pdfserv.maxim-ic.com/en/ds/HI-201HS.pdf
footprint JE16 (DIP, 16-Leads, Row Spacing 7.62mm, Pitch 2.54mm, Body 20.37x6.73mm)
3D model JE16 (DIP, 16-Pin, Row Spacing 7.62 mm, Pitch 2.54 mm)
pins: 1 A1 (in), 2 OUT1 (io), 3 IN1 (io), 4 VEE (power), 5 GND (power), 6 IN4 (io), 7 OUT4 (io), 8 A4 (in), 9 A3 (in), 10 OUT3 (io), 11 IN3 (io), 12 NC, 13 VDD (power), 14 IN2 (io), 15 OUT2 (io), 16 A2 (in)

## HI3-0201HS5
designator U?
High-Speed, CMOS, Quad, SPST Analog Switch; Published: 16-Jan-2001; LatestRevisionDate: 29-May-2009; LatestRevisionNote: Component Body Added.; DatasheetVersion: Nov-1994; PackageVersion: 1997; PackageReference: PE16A; Publisher: Altium Limited; PackageDescription: DIP, 16-Pin, Row Spacing 7.62 mm, Pitch 2.54 mm; Code_JEDEC: MS-001-BB; ComponentLink1Description: Manufacturer Link; ComponentLink1URL: http://www.maxim-ic.com/; ComponentLink2Description: Datasheet; ComponentLink2URL: http://pdfserv.maxim-ic.com/en/ds/HI-201HS.pdf
footprint PE16A (DIP, 16-Leads, Row Spacing 7.62mm, Pitch 2.54mm, Body 19.18x6.99mm)
3D model PE16 (DIP, 16-Pin, Row Spacing 7.62 mm, Pitch 2.54 mm)
pins: 1 A1 (in), 2 OUT1 (io), 3 IN1 (io), 4 VEE (power), 5 GND (power), 6 IN4 (io), 7 OUT4 (io), 8 A4 (in), 9 A3 (in), 10 OUT3 (io), 11 IN3 (io), 12 NC, 13 VDD (power), 14 IN2 (io), 15 OUT2 (io), 16 A2 (in)

## HI3-0201HS9
designator U?
High-Speed, CMOS, Quad, SPST Analog Switch; Published: 16-Jan-2001; LatestRevisionDate: 29-May-2009; LatestRevisionNote: Component Body Added.; DatasheetVersion: Nov-1994; PackageVersion: 1997; PackageReference: PE16A; Publisher: Altium Limited; PackageDescription: DIP, 16-Pin, Row Spacing 7.62 mm, Pitch 2.54 mm; Code_JEDEC: MS-001-BB; ComponentLink1Description: Manufacturer Link; ComponentLink1URL: http://www.maxim-ic.com/; ComponentLink2Description: Datasheet; ComponentLink2URL: http://pdfserv.maxim-ic.com/en/ds/HI-201HS.pdf
footprint PE16A (DIP, 16-Leads, Row Spacing 7.62mm, Pitch 2.54mm, Body 19.18x6.99mm)
3D model PE16 (DIP, 16-Pin, Row Spacing 7.62 mm, Pitch 2.54 mm)
pins: 1 A1 (in), 2 OUT1 (io), 3 IN1 (io), 4 VEE (power), 5 GND (power), 6 IN4 (io), 7 OUT4 (io), 8 A4 (in), 9 A3 (in), 10 OUT3 (io), 11 IN3 (io), 12 NC, 13 VDD (power), 14 IN2 (io), 15 OUT2 (io), 16 A2 (in)

## HI4-0201HS8
designator U?
High-Speed, CMOS, Quad, SPST Analog Switch; Published: 16-Jan-2001; LatestRevisionDate: 17-Jul-2002; LatestRevisionNote: Re-released for DXP Platform.; DatasheetVersion: Nov-1994; PackageReference: LCC20; Publisher: Altium Limited; PackageDescription: Leadless Chip Carrier; 20 Terminals; Body 8.9 x 8.9 mm; ComponentLink1Description: Manufacturer Link; ComponentLink1URL: http://www.maxim-ic.com/; ComponentLink2Description: Datasheet; ComponentLink2URL: http://pdfserv.maxim-ic.com/en/ds/HI-201HS.pdf
footprint LCC20 (Leadless Chip Carrier; 20 Terminals; Body 8.9 x 8.9 mm)
footprint LCC20_N (Leadless Chip Carrier, 20-Leads, Body 8.9x8.9mm, Pitch 1.27mm, IPC Medium Density)
footprint LCC20_L (Leadless Chip Carrier, 20-Leads, Body 8.9x8.9mm, Pitch 1.27mm, IPC High Density)
footprint LCC20_M (Leadless Chip Carrier, 20-Leads, Body 8.9x8.9mm, Pitch 1.27mm, IPC Low Density)
pins: 1 NC, 2 A1 (in), 3 OUT1 (io), 4 IN1 (io), 5 VEE (power), 6 NC, 7 GND (power), 8 IN4 (io), 9 OUT4 (io), 10 A4 (in), 11 NC, 12 A3 (in), 13 OUT3 (io), 14 IN3 (io), 15 NC, 16 NC, 17 VDD (power), 18 IN2 (io), 19 OUT2 (io), 20 A2 (in)

## HI6-0201HS5
designator U?
High-Speed, CMOS, Quad, SPST Analog Switch; Published: 16-Jan-2001; LatestRevisionDate: 13-Apr-2006; LatestRevisionNote: IPC-7351 Footprint Added.; DatasheetVersion: Nov-1994; PackageReference: NSO16; Publisher: Altium Limited; PackageDescription: 16-Pin Small Outline Integrated Circuit 1.27 mm Pitch; Code_JEDEC: MS-012-AC; Code_IPC: SOIC127P600-16; ComponentLink1Description: Manufacturer Link; ComponentLink1URL: http://www.maxim-ic.com/; ComponentLink2Description: Datasheet; ComponentLink2URL: http://pdfserv.maxim-ic.com/en/ds/HI-201HS.pdf
footprint NSO16_N (SOIC, 16-Leads, Body 9.9x3.9mm, Pitch 1.27mm, IPC Medium Density)
footprint NSO16_L (SOIC, 16-Leads, Body 9.9x3.9mm, Pitch 1.27mm, IPC High Density)
footprint NSO16_M (SOIC, 16-Leads, Body 9.9x3.9mm, Pitch 1.27mm, IPC Low Density)
3D model NSO16 (16-Pin Small Outline Integrated Circuit 1.27 mm Pitch)
pins: 1 A1 (in), 2 OUT1 (io), 3 IN1 (io), 4 VEE (power), 5 GND (power), 6 IN4 (io), 7 OUT4 (io), 8 A4 (in), 9 A3 (in), 10 OUT3 (io), 11 IN3 (io), 12 NC, 13 VDD (power), 14 IN2 (io), 15 OUT2 (io), 16 A2 (in)

## HI6-0201HS9
designator U?
High-Speed, CMOS, Quad, SPST Analog Switch; Published: 16-Jan-2001; LatestRevisionDate: 13-Apr-2006; LatestRevisionNote: IPC-7351 Footprint Added.; DatasheetVersion: Nov-1994; PackageReference: NSO16; Publisher: Altium Limited; PackageDescription: 16-Pin Small Outline Integrated Circuit 1.27 mm Pitch; Code_JEDEC: MS-012-AC; Code_IPC: SOIC127P600-16; ComponentLink1Description: Manufacturer Link; ComponentLink1URL: http://www.maxim-ic.com/; ComponentLink2Description: Datasheet; ComponentLink2URL: http://pdfserv.maxim-ic.com/en/ds/HI-201HS.pdf
footprint NSO16_N (SOIC, 16-Leads, Body 9.9x3.9mm, Pitch 1.27mm, IPC Medium Density)
footprint NSO16_L (SOIC, 16-Leads, Body 9.9x3.9mm, Pitch 1.27mm, IPC High Density)
footprint NSO16_M (SOIC, 16-Leads, Body 9.9x3.9mm, Pitch 1.27mm, IPC Low Density)
3D model NSO16 (16-Pin Small Outline Integrated Circuit 1.27 mm Pitch)
pins: 1 A1 (in), 2 OUT1 (io), 3 IN1 (io), 4 VEE (power), 5 GND (power), 6 IN4 (io), 7 OUT4 (io), 8 A4 (in), 9 A3 (in), 10 OUT3 (io), 11 IN3 (io), 12 NC, 13 VDD (power), 14 IN2 (io), 15 OUT2 (io), 16 A2 (in)

## IH5042CWE
designator U?
General-Purpose CMOS Analog Switch; Published: 16-Jan-2001; LatestRevisionDate: 13-Apr-2006; LatestRevisionNote: IPC-7351 Footprint Added.; DatasheetVersion: Jul-1992; PackageReference: WSO16; Publisher: Altium Limited; PackageDescription: 16-Pin Small Outline Integrated Circuit 1.27 mm Pitch; Code_JEDEC: MS-013-AA; Code_IPC: SOIC127P1030-16; ComponentLink1Description: Manufacturer Link; ComponentLink1URL: http://www.maxim-ic.com/; ComponentLink2Description: Datasheet; ComponentLink2URL: http://pdfserv.maxim-ic.com/en/ds/IH5040-IH5047.pdf
footprint WSO16_N (SOIC, 16-Leads, Body 10.3x7.5mm, Pitch 1.27mm, IPC Medium Density)
footprint WSO16_L (SOIC, 16-Leads, Body 10.3x7.5mm, Pitch 1.27mm, IPC High Density)
footprint WSO16_M (SOIC, 16-Leads, Body 10.3x7.5mm, Pitch 1.27mm, IPC Low Density)
3D model WSO16 (16-Pin Small Outline Integrated Circuit 1.27 mm Pitch)
pins: 1 D1 (io), 2 NC, 3 D2 (io), 4 S2 (io), 5 NC, 6 NC, 7 NC, 8 NC, 9 NC, 10 NC, 11 VDD (power), 12 VL (power), 13 GND (power), 14 VEE (power), 15 IN (in), 16 S1 (io)

## IH5042MJE
designator U?
General-Purpose CMOS Analog Switch; Published: 16-Jan-2001; LatestRevisionDate: 29-May-2009; LatestRevisionNote: Component Body Added.; DatasheetVersion: Jul-1992; PackageVersion: 1996; PackageReference: JE16; Publisher: Altium Limited; PackageDescription: DIP, 16-Pin, Row Spacing 7.62 mm, Pitch 2.54 mm; ComponentLink1Description: Manufacturer Link; ComponentLink1URL: http://www.maxim-ic.com/; ComponentLink2Description: Datasheet; ComponentLink2URL: http://pdfserv.maxim-ic.com/en/ds/IH5040-IH5047.pdf
footprint JE16 (DIP, 16-Leads, Row Spacing 7.62mm, Pitch 2.54mm, Body 20.37x6.73mm)
3D model JE16 (DIP, 16-Pin, Row Spacing 7.62 mm, Pitch 2.54 mm)
pins: 1 D1 (io), 2 NC, 3 D2 (io), 4 S2 (io), 5 NC, 6 NC, 7 NC, 8 NC, 9 NC, 10 NC, 11 VDD (power), 12 VL (power), 13 GND (power), 14 VEE (power), 15 IN (in), 16 S1 (io)

## IH5043CWE
designator U?
General-Purpose CMOS Analog Switch; Published: 16-Jan-2001; LatestRevisionDate: 13-Apr-2006; LatestRevisionNote: IPC-7351 Footprint Added.; DatasheetVersion: Jul-1992; PackageReference: WSO16; Publisher: Altium Limited; PackageDescription: 16-Pin Small Outline Integrated Circuit 1.27 mm Pitch; Code_JEDEC: MS-013-AA; Code_IPC: SOIC127P1030-16; ComponentLink1Description: Manufacturer Link; ComponentLink1URL: http://www.maxim-ic.com/; ComponentLink2Description: Datasheet; ComponentLink2URL: http://pdfserv.maxim-ic.com/en/ds/IH5040-IH5047.pdf
footprint WSO16_N (SOIC, 16-Leads, Body 10.3x7.5mm, Pitch 1.27mm, IPC Medium Density)
footprint WSO16_L (SOIC, 16-Leads, Body 10.3x7.5mm, Pitch 1.27mm, IPC High Density)
footprint WSO16_M (SOIC, 16-Leads, Body 10.3x7.5mm, Pitch 1.27mm, IPC Low Density)
3D model WSO16 (16-Pin Small Outline Integrated Circuit 1.27 mm Pitch)
pins: 1 D1 (io), 2 NC, 3 D3 (io), 4 S3 (io), 5 S4 (io), 6 D4 (io), 7 NC, 8 D2 (io), 9 S2 (io), 10 IN2 (in), 11 VDD (power), 12 VL (power), 13 GND (power), 14 VEE (power), 15 IN1 (in), 16 S1 (io)

## IH5043MJE
designator U?
General-Purpose CMOS Analog Switch; Published: 16-Jan-2001; LatestRevisionDate: 29-May-2009; LatestRevisionNote: Component Body Added.; DatasheetVersion: Jul-1992; PackageVersion: 1996; PackageReference: JE16; Publisher: Altium Limited; PackageDescription: DIP, 16-Pin, Row Spacing 7.62 mm, Pitch 2.54 mm; ComponentLink1Description: Manufacturer Link; ComponentLink1URL: http://www.maxim-ic.com/; ComponentLink2Description: Datasheet; ComponentLink2URL: http://pdfserv.maxim-ic.com/en/ds/IH5040-IH5047.pdf
footprint JE16 (DIP, 16-Leads, Row Spacing 7.62mm, Pitch 2.54mm, Body 20.37x6.73mm)
3D model JE16 (DIP, 16-Pin, Row Spacing 7.62 mm, Pitch 2.54 mm)
pins: 1 D1 (io), 2 NC, 3 D3 (io), 4 S3 (io), 5 S4 (io), 6 D4 (io), 7 NC, 8 D2 (io), 9 S2 (io), 10 IN2 (in), 11 VDD (power), 12 VL (power), 13 GND (power), 14 VEE (power), 15 IN1 (in), 16 S1 (io)

## IH5044MJE
designator U?
General-Purpose CMOS Analog Switch; Published: 16-Jan-2001; LatestRevisionDate: 29-May-2009; LatestRevisionNote: Component Body Added.; DatasheetVersion: Jul-1992; PackageVersion: 1996; PackageReference: JE16; Publisher: Altium Limited; PackageDescription: DIP, 16-Pin, Row Spacing 7.62 mm, Pitch 2.54 mm; ComponentLink1Description: Manufacturer Link; ComponentLink1URL: http://www.maxim-ic.com/; ComponentLink2Description: Datasheet; ComponentLink2URL: http://pdfserv.maxim-ic.com/en/ds/IH5040-IH5047.pdf
footprint JE16 (DIP, 16-Leads, Row Spacing 7.62mm, Pitch 2.54mm, Body 20.37x6.73mm)
3D model JE16 (DIP, 16-Pin, Row Spacing 7.62 mm, Pitch 2.54 mm)
pins: 1 D1 (io), 2 NC, 3 D2 (io), 4 S2 (io), 5 NC, 6 NC, 7 NC, 8 NC, 9 NC, 10 NC, 11 VDD (power), 12 VL (power), 13 GND (power), 14 VEE (power), 15 IN (in), 16 S1 (io)

## IH5045MJE
designator U?
General-Purpose CMOS Analog Switch; Published: 16-Jan-2001; LatestRevisionDate: 29-May-2009; LatestRevisionNote: Component Body Added.; DatasheetVersion: Jul-1992; PackageVersion: 1996; PackageReference: JE16; Publisher: Altium Limited; PackageDescription: DIP, 16-Pin, Row Spacing 7.62 mm, Pitch 2.54 mm; ComponentLink1Description: Manufacturer Link; ComponentLink1URL: http://www.maxim-ic.com/; ComponentLink2Description: Datasheet; ComponentLink2URL: http://pdfserv.maxim-ic.com/en/ds/IH5040-IH5047.pdf
footprint JE16 (DIP, 16-Leads, Row Spacing 7.62mm, Pitch 2.54mm, Body 20.37x6.73mm)
3D model JE16 (DIP, 16-Pin, Row Spacing 7.62 mm, Pitch 2.54 mm)
pins: 1 D1 (io), 2 NC, 3 D3 (io), 4 S3 (io), 5 S4 (io), 6 D4 (io), 7 NC, 8 D2 (io), 9 S2 (io), 10 IN2 (in), 11 VDD (power), 12 VL (power), 13 GND (power), 14 VEE (power), 15 IN1 (in), 16 S1 (io)

## IH5049MJE
designator U?
CMOS Analog Switch; Published: 16-Jan-2001; LatestRevisionDate: 29-May-2009; LatestRevisionNote: Component Body Added.; DatasheetVersion: Dec-1992; PackageVersion: 1996; PackageReference: JE16; Publisher: Altium Limited; PackageDescription: DIP, 16-Pin, Row Spacing 7.62 mm, Pitch 2.54 mm; ComponentLink1Description: Manufacturer Link; ComponentLink1URL: http://www.maxim-ic.com/; ComponentLink2Description: Datasheet; ComponentLink2URL: http://pdfserv.maxim-ic.com/en/ds/IH5048-IH5051.pdf
footprint JE16 (DIP, 16-Leads, Row Spacing 7.62mm, Pitch 2.54mm, Body 20.37x6.73mm)
3D model JE16 (DIP, 16-Pin, Row Spacing 7.62 mm, Pitch 2.54 mm)
pins: 1 D1 (io), 2 NC, 3 D3 (io), 4 S3 (io), 5 S4 (io), 6 D4 (io), 7 NC, 8 D2 (io), 9 S2 (io), 10 IN2 (in), 11 VDD (power), 12 VL (power), 13 GND (power), 14 VEE (power), 15 IN1 (in), 16 S1 (io)